# Altium schematic symbol library SN74HC125DB.SchLib: 1 symbol
Pins are listed as number, name and electrical type; pins without a type are passive.

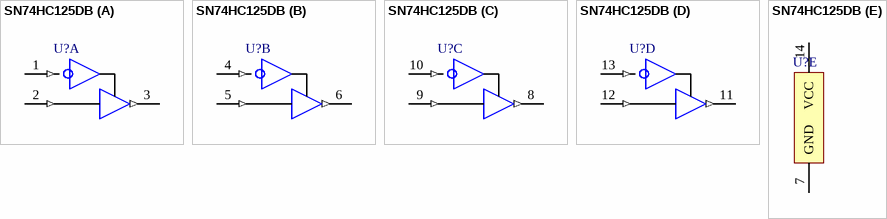
[diagram p0: symbol SN74HC125DB]

## SN74HC125DB
designator U?, comment SN74HC125  (value not drawn)
part A pins: 1 ~{1OE} (in), 2 1A (in), 3 1Y (out)
part B pins: 4 ~{2OE} (in), 5 2A (in), 6 2Y (out)
part C pins: 8 3Y (out), 9 3A (in), 10 ~{3OE} (in)
part D pins: 11 4Y (out), 12 4A (in), 13 ~{4OE} (in)
part E pins: 7 GND (power), 14 VCC (power)